# Altium integrated library TI Amplifiers and Linear Operational Amplifier General Purpose.IntLib: 1448 symbols (part 47 of 51)
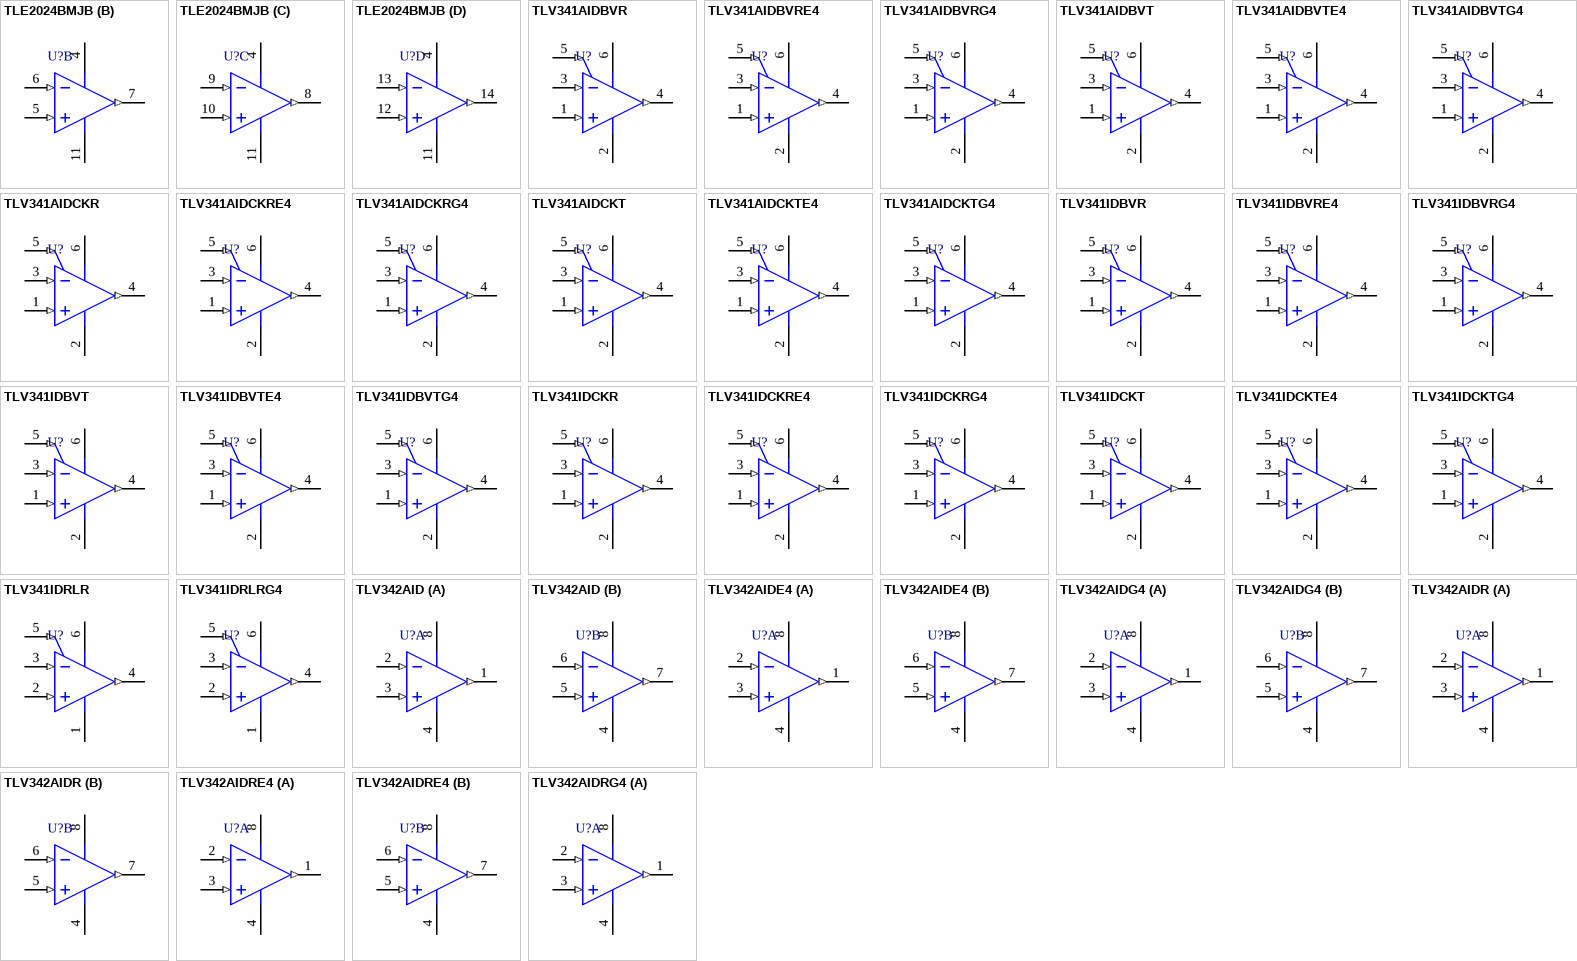
[diagram p137: symbols TLE2024BMJB to TLV342AIDRG4]

## TLV341IDCKRE4
designator U?
Low-Voltage, Rail-To-Rail Output CMOS Operational Amplifier with Shutdown, 1.5 to 5.5 V, -40 to 125 degC, 6-pin SOT23 (DCK6), Green (RoHS & no Sb/Br); Manufacturer: Texas Instruments; PartNumber: TLV341IDCKRE4; CMRR(Min)(dB): 50; GBW(Typ)(MHz): 2.2; IIB(Max)(pA): 3000; Iq per channel(Max)(mA): 0.15; Number of Channels: 1; Offset Drift(Typ)(uV/C): 1.9; Rating: Catalog; Slew Rate(Typ)(V/us): 0.9; Sub Family: General Purpose Amplifier, Low Power Amp (<=500uA), Low Supply Voltage Amplifier (<=2.7V); Total Supply Voltage(Max)(+5V is 5, +/-5V is 10): 5.5; Total Supply Voltage(Min)(+5V is 5, +/-5V is 10): 1.5; Vio (25C)(Max)(mV): 4; Vn at 1kHz(Typ)(nV/rtHz): 33; DatasheetVersion: SLVS568C; PackageVersion: 4093553-4/G, 01/2007; PackageReference: DCK6; PackageDescription: 6-Pin Plastic Small Outline, Body 2 x 1.25 mm, Pitch 0.65 mm; Supplier 1: Digi-Key; Supplier Part Number 1: TLV341IDCKRE4-ND; Supplier 2: Mouser; Supplier Part Number 2: 595-TLV341IDCKRE4; Eco-Plan: Green (RoHS & no Sb/Br); Mounting Technology: Surface Mount; Code_JEDEC: MO-203; ComponentLink1Description: Manufacturer URL; ComponentLink1URL: http://www.ti.com/; ComponentLink2Description: Datasheet; ComponentLink2URL: http://www.ti.com/lit/ds/symlink/tlv341.pdf; ComponentLink3Description: Package Specification; ComponentLink3URL: http://www.ti.com/litv/pdf/mpds114c
footprint TI-DCK6_V (SOT23, 6-Leads, Body 2x1.25mm, Pitch 0.65mm)
pins: 1 IN+ (in), 2 GND (power), 3 IN- (in), 4 OUT (out), 5 ~{SHDN} (in), 6 V+ (power)

## TLV341IDCKRG4
designator U?
Low-Voltage, Rail-To-Rail Output CMOS Operational Amplifier with Shutdown, 1.5 to 5.5 V, -40 to 125 degC, 6-pin SOT23 (DCK6), Green (RoHS & no Sb/Br); Manufacturer: Texas Instruments; PartNumber: TLV341IDCKRG4; CMRR(Min)(dB): 50; GBW(Typ)(MHz): 2.2; IIB(Max)(pA): 3000; Iq per channel(Max)(mA): 0.15; Number of Channels: 1; Offset Drift(Typ)(uV/C): 1.9; Rating: Catalog; Slew Rate(Typ)(V/us): 0.9; Sub Family: General Purpose Amplifier, Low Power Amp (<=500uA), Low Supply Voltage Amplifier (<=2.7V); Total Supply Voltage(Max)(+5V is 5, +/-5V is 10): 5.5; Total Supply Voltage(Min)(+5V is 5, +/-5V is 10): 1.5; Vio (25C)(Max)(mV): 4; Vn at 1kHz(Typ)(nV/rtHz): 33; DatasheetVersion: SLVS568C; PackageVersion: 4093553-4/G, 01/2007; PackageReference: DCK6; PackageDescription: 6-Pin Plastic Small Outline, Body 2 x 1.25 mm, Pitch 0.65 mm; Supplier 1: Digi-Key; Supplier Part Number 1: TLV341IDCKRG4-ND; Supplier 2: Mouser; Supplier Part Number 2: 595-TLV341IDCKRG4; Eco-Plan: Green (RoHS & no Sb/Br); Mounting Technology: Surface Mount; Code_JEDEC: MO-203; ComponentLink1Description: Manufacturer URL; ComponentLink1URL: http://www.ti.com/; ComponentLink2Description: Datasheet; ComponentLink2URL: http://www.ti.com/lit/ds/symlink/tlv341.pdf; ComponentLink3Description: Package Specification; ComponentLink3URL: http://www.ti.com/litv/pdf/mpds114c
footprint TI-DCK6_V (SOT23, 6-Leads, Body 2x1.25mm, Pitch 0.65mm)
pins: 1 IN+ (in), 2 GND (power), 3 IN- (in), 4 OUT (out), 5 ~{SHDN} (in), 6 V+ (power)

## TLV341IDCKT
designator U?
Low-Voltage, Rail-To-Rail Output CMOS Operational Amplifier with Shutdown, 1.5 to 5.5 V, -40 to 125 degC, 6-pin SOT23 (DCK6), Green (RoHS & no Sb/Br); Manufacturer: Texas Instruments; PartNumber: TLV341IDCKT; CMRR(Min)(dB): 50; GBW(Typ)(MHz): 2.2; IIB(Max)(pA): 3000; Iq per channel(Max)(mA): 0.15; Number of Channels: 1; Offset Drift(Typ)(uV/C): 1.9; Rating: Catalog; Slew Rate(Typ)(V/us): 0.9; Sub Family: General Purpose Amplifier, Low Power Amp (<=500uA), Low Supply Voltage Amplifier (<=2.7V); Total Supply Voltage(Max)(+5V is 5, +/-5V is 10): 5.5; Total Supply Voltage(Min)(+5V is 5, +/-5V is 10): 1.5; Vio (25C)(Max)(mV): 4; Vn at 1kHz(Typ)(nV/rtHz): 33; DatasheetVersion: SLVS568C; PackageVersion: 4093553-4/G, 01/2007; PackageReference: DCK6; PackageDescription: 6-Pin Plastic Small Outline, Body 2 x 1.25 mm, Pitch 0.65 mm; Supplier 1: Digi-Key; Supplier Part Number 1: 296-32393-2-ND; Supplier 2: Digi-Key; Supplier Part Number 2: 296-32393-1-ND; Supplier 3: Digi-Key; Supplier Part Number 3: 296-32393-6-ND; Supplier 4: Mouser; Supplier Part Number 4: 595-TLV341IDCKT; Eco-Plan: Green (RoHS & no Sb/Br); Mounting Technology: Surface Mount; Code_JEDEC: MO-203; ComponentLink1Description: Manufacturer URL; ComponentLink1URL: http://www.ti.com/; ComponentLink2Description: Datasheet; ComponentLink2URL: http://www.ti.com/lit/ds/symlink/tlv341.pdf; ComponentLink3Description: Package Specification; ComponentLink3URL: http://www.ti.com/litv/pdf/mpds114c
footprint TI-DCK6_V (SOT23, 6-Leads, Body 2x1.25mm, Pitch 0.65mm)
pins: 1 IN+ (in), 2 GND (power), 3 IN- (in), 4 OUT (out), 5 ~{SHDN} (in), 6 V+ (power)

## TLV341IDCKTE4
designator U?
Low-Voltage, Rail-To-Rail Output CMOS Operational Amplifier with Shutdown, 1.5 to 5.5 V, -40 to 125 degC, 6-pin SOT23 (DCK6), Green (RoHS & no Sb/Br); Manufacturer: Texas Instruments; PartNumber: TLV341IDCKTE4; CMRR(Min)(dB): 50; GBW(Typ)(MHz): 2.2; IIB(Max)(pA): 3000; Iq per channel(Max)(mA): 0.15; Number of Channels: 1; Offset Drift(Typ)(uV/C): 1.9; Rating: Catalog; Slew Rate(Typ)(V/us): 0.9; Sub Family: General Purpose Amplifier, Low Power Amp (<=500uA), Low Supply Voltage Amplifier (<=2.7V); Total Supply Voltage(Max)(+5V is 5, +/-5V is 10): 5.5; Total Supply Voltage(Min)(+5V is 5, +/-5V is 10): 1.5; Vio (25C)(Max)(mV): 4; Vn at 1kHz(Typ)(nV/rtHz): 33; DatasheetVersion: SLVS568C; PackageVersion: 4093553-4/G, 01/2007; PackageReference: DCK6; PackageDescription: 6-Pin Plastic Small Outline, Body 2 x 1.25 mm, Pitch 0.65 mm; Supplier 1: Digi-Key; Supplier Part Number 1: TLV341IDCKTE4-ND; Supplier 2: Newark; Supplier Part Number 2: 37K4249; Supplier 3: Mouser; Supplier Part Number 3: 595-TLV341IDCKTE4; Eco-Plan: Green (RoHS & no Sb/Br); Mounting Technology: Surface Mount; Code_JEDEC: MO-203; ComponentLink1Description: Manufacturer URL; ComponentLink1URL: http://www.ti.com/; ComponentLink2Description: Datasheet; ComponentLink2URL: http://www.ti.com/lit/ds/symlink/tlv341.pdf; ComponentLink3Description: Package Specification; ComponentLink3URL: http://www.ti.com/litv/pdf/mpds114c
footprint TI-DCK6_V (SOT23, 6-Leads, Body 2x1.25mm, Pitch 0.65mm)
pins: 1 IN+ (in), 2 GND (power), 3 IN- (in), 4 OUT (out), 5 ~{SHDN} (in), 6 V+ (power)

## TLV341IDCKTG4
designator U?
Low-Voltage, Rail-To-Rail Output CMOS Operational Amplifier with Shutdown, 1.5 to 5.5 V, -40 to 125 degC, 6-pin SOT23 (DCK6), Green (RoHS & no Sb/Br); Manufacturer: Texas Instruments; PartNumber: TLV341IDCKTG4; CMRR(Min)(dB): 50; GBW(Typ)(MHz): 2.2; IIB(Max)(pA): 3000; Iq per channel(Max)(mA): 0.15; Number of Channels: 1; Offset Drift(Typ)(uV/C): 1.9; Rating: Catalog; Slew Rate(Typ)(V/us): 0.9; Sub Family: General Purpose Amplifier, Low Power Amp (<=500uA), Low Supply Voltage Amplifier (<=2.7V); Total Supply Voltage(Max)(+5V is 5, +/-5V is 10): 5.5; Total Supply Voltage(Min)(+5V is 5, +/-5V is 10): 1.5; Vio (25C)(Max)(mV): 4; Vn at 1kHz(Typ)(nV/rtHz): 33; DatasheetVersion: SLVS568C; PackageVersion: 4093553-4/G, 01/2007; PackageReference: DCK6; PackageDescription: 6-Pin Plastic Small Outline, Body 2 x 1.25 mm, Pitch 0.65 mm; Supplier 1: Digi-Key; Supplier Part Number 1: TLV341IDCKTG4-ND; Supplier 2: Mouser; Supplier Part Number 2: 595-TLV341IDCKTG4; Eco-Plan: Green (RoHS & no Sb/Br); Mounting Technology: Surface Mount; Code_JEDEC: MO-203; ComponentLink1Description: Manufacturer URL; ComponentLink1URL: http://www.ti.com/; ComponentLink2Description: Datasheet; ComponentLink2URL: http://www.ti.com/lit/ds/symlink/tlv341.pdf; ComponentLink3Description: Package Specification; ComponentLink3URL: http://www.ti.com/litv/pdf/mpds114c
footprint TI-DCK6_V (SOT23, 6-Leads, Body 2x1.25mm, Pitch 0.65mm)
pins: 1 IN+ (in), 2 GND (power), 3 IN- (in), 4 OUT (out), 5 ~{SHDN} (in), 6 V+ (power)

## TLV341IDRLR
designator U?
Low-Voltage, Rail-To-Rail Output CMOS Operational Amplifier with Shutdown, 1.5 to 5.5 V, -40 to 125 degC, 6-pin SOT23 (DRL6), Green (RoHS & no Sb/Br); Manufacturer: Texas Instruments; PartNumber: TLV341IDRLR; CMRR(Min)(dB): 50; GBW(Typ)(MHz): 2.2; IIB(Max)(pA): 3000; Iq per channel(Max)(mA): 0.15; Number of Channels: 1; Offset Drift(Typ)(uV/C): 1.9; Rating: Catalog; Slew Rate(Typ)(V/us): 0.9; Sub Family: General Purpose Amplifier, Low Power Amp (<=500uA), Low Supply Voltage Amplifier (<=2.7V); Total Supply Voltage(Max)(+5V is 5, +/-5V is 10): 5.5; Total Supply Voltage(Min)(+5V is 5, +/-5V is 10): 1.5; Vio (25C)(Max)(mV): 4; Vn at 1kHz(Typ)(nV/rtHz): 33; DatasheetVersion: SLVS568C; PackageVersion: 4205622-3/D, 08/2007; PackageReference: DRL6; PackageDescription: 6-Pin Plastic Small Outline, Body 1.6 x 1.2 mm, Pitch 0.5 mm; Supplier 1: Digi-Key; Supplier Part Number 1: 296-21126-2-ND; Supplier 2: Digi-Key; Supplier Part Number 2: 296-21126-1-ND; Supplier 3: Digi-Key; Supplier Part Number 3: 296-21126-6-ND; Supplier 4: Mouser; Supplier Part Number 4: 595-TLV341IDRLR; Eco-Plan: Green (RoHS & no Sb/Br); Mounting Technology: Surface Mount; ComponentLink1Description: Manufacturer URL; ComponentLink1URL: http://www.ti.com/; ComponentLink2Description: Datasheet; ComponentLink2URL: http://www.ti.com/lit/ds/symlink/tlv341.pdf; ComponentLink3Description: Package Specification; ComponentLink3URL: http://www.ti.com/litv/pdf/mpds159c
footprint TI-DRL6_V (SOT23, 6-Leads, Body 1.6x1.2mm, Pitch 0.5mm)
pins: 1 GND (power), 2 IN+ (in), 3 IN- (in), 4 OUT (out), 5 ~{SHDN} (in), 6 V+ (power)

## TLV341IDRLRG4
designator U?
Low-Voltage, Rail-To-Rail Output CMOS Operational Amplifier with Shutdown, 1.5 to 5.5 V, -40 to 125 degC, 6-pin SOT23 (DRL6), Green (RoHS & no Sb/Br); Manufacturer: Texas Instruments; PartNumber: TLV341IDRLRG4; CMRR(Min)(dB): 50; GBW(Typ)(MHz): 2.2; IIB(Max)(pA): 3000; Iq per channel(Max)(mA): 0.15; Number of Channels: 1; Offset Drift(Typ)(uV/C): 1.9; Rating: Catalog; Slew Rate(Typ)(V/us): 0.9; Sub Family: General Purpose Amplifier, Low Power Amp (<=500uA), Low Supply Voltage Amplifier (<=2.7V); Total Supply Voltage(Max)(+5V is 5, +/-5V is 10): 5.5; Total Supply Voltage(Min)(+5V is 5, +/-5V is 10): 1.5; Vio (25C)(Max)(mV): 4; Vn at 1kHz(Typ)(nV/rtHz): 33; DatasheetVersion: SLVS568C; PackageVersion: 4205622-3/D, 08/2007; PackageReference: DRL6; PackageDescription: 6-Pin Plastic Small Outline, Body 1.6 x 1.2 mm, Pitch 0.5 mm; Supplier 1: Digi-Key; Supplier Part Number 1: TLV341IDRLRG4-ND; Supplier 2: Mouser; Supplier Part Number 2: 595-TLV341IDRLRG4; Eco-Plan: Green (RoHS & no Sb/Br); Mounting Technology: Surface Mount; ComponentLink1Description: Manufacturer URL; ComponentLink1URL: http://www.ti.com/; ComponentLink2Description: Datasheet; ComponentLink2URL: http://www.ti.com/lit/ds/symlink/tlv341.pdf; ComponentLink3Description: Package Specification; ComponentLink3URL: http://www.ti.com/litv/pdf/mpds159c
footprint TI-DRL6_V (SOT23, 6-Leads, Body 1.6x1.2mm, Pitch 0.5mm)
pins: 1 GND (power), 2 IN+ (in), 3 IN- (in), 4 OUT (out), 5 ~{SHDN} (in), 6 V+ (power)

## TLV342AID
designator U?
Low-Voltage, Rail-To-Rail Output CMOS Operational Amplifier, 1.5 to 5.5 V, -40 to 125 degC, 8-pin SOIC (D8), Green (RoHS & no Sb/Br); Manufacturer: Texas Instruments; PartNumber: TLV342AID; CMRR(Min)(dB): 50; GBW(Typ)(MHz): 2.2; IIB(Max)(pA): 3000; Iq per channel(Max)(mA): 0.15; Number of Channels: 2; Offset Drift(Typ)(uV/C): 1.9; Rating: Catalog; Slew Rate(Typ)(V/us): 0.9; Sub Family: General Purpose Amplifier, Low Power Amp (<=500uA), Low Supply Voltage Amplifier (<=2.7V); Total Supply Voltage(Max)(+5V is 5, +/-5V is 10): 5.5; Total Supply Voltage(Min)(+5V is 5, +/-5V is 10): 1.5; Vio (25C)(Max)(mV): 1.25; Vn at 1kHz(Typ)(nV/rtHz): 33; DatasheetVersion: SLVS568C; PackageVersion: 4040047-3/M, 06/2011; PackageReference: D8; PackageDescription: 8-Pin Plastic Small Outline, Body 4.9 x 3.9 mm, Pitch 1.27 mm; Supplier 1: Digi-Key; Supplier Part Number 1: TLV342AID-ND; Supplier 2: Mouser; Supplier Part Number 2: 595-TLV342AID; Eco-Plan: Green (RoHS & no Sb/Br); Mounting Technology: Surface Mount; Code_JEDEC: MS-012; ComponentLink1Description: Manufacturer URL; ComponentLink1URL: http://www.ti.com/; ComponentLink2Description: Datasheet; ComponentLink2URL: http://www.ti.com/lit/ds/symlink/tlv342a.pdf; ComponentLink3Description: Package Specification; ComponentLink3URL: http://www.ti.com/litv/pdf/msoi002j
footprint TI-D8_N (SOIC, 8-Leads, Body 4.9x3.9mm, Pitch 1.27mm, IPC Medium Density)
footprint TI-D8_L (SOIC, 8-Leads, Body 4.9x3.9mm, Pitch 1.27mm, IPC High Density)
footprint TI-D8_M (SOIC, 8-Leads, Body 4.9x3.9mm, Pitch 1.27mm, IPC Low Density)
pins on every part: 4 GND (power), 8 V+ (power)
part A pins: 1 OUT1 (out), 2 IN1- (in), 3 IN1+ (in)
part B pins: 5 IN2+ (in), 6 IN2- (in), 7 OUT2 (out)

## TLV342AIDE4
designator U?
Low-Voltage, Rail-To-Rail Output CMOS Operational Amplifier, 1.5 to 5.5 V, -40 to 125 degC, 8-pin SOIC (D8), Green (RoHS & no Sb/Br); Manufacturer: Texas Instruments; PartNumber: TLV342AIDE4; CMRR(Min)(dB): 50; GBW(Typ)(MHz): 2.2; IIB(Max)(pA): 3000; Iq per channel(Max)(mA): 0.15; Number of Channels: 2; Offset Drift(Typ)(uV/C): 1.9; Rating: Catalog; Slew Rate(Typ)(V/us): 0.9; Sub Family: General Purpose Amplifier, Low Power Amp (<=500uA), Low Supply Voltage Amplifier (<=2.7V); Total Supply Voltage(Max)(+5V is 5, +/-5V is 10): 5.5; Total Supply Voltage(Min)(+5V is 5, +/-5V is 10): 1.5; Vio (25C)(Max)(mV): 1.25; Vn at 1kHz(Typ)(nV/rtHz): 33; DatasheetVersion: SLVS568C; PackageVersion: 4040047-3/M, 06/2011; PackageReference: D8; PackageDescription: 8-Pin Plastic Small Outline, Body 4.9 x 3.9 mm, Pitch 1.27 mm; Supplier 1: Digi-Key; Supplier Part Number 1: TLV342AIDE4-ND; Supplier 2: Mouser; Supplier Part Number 2: 595-TLV342AIDE4; Eco-Plan: Green (RoHS & no Sb/Br); Mounting Technology: Surface Mount; Code_JEDEC: MS-012; ComponentLink1Description: Manufacturer URL; ComponentLink1URL: http://www.ti.com/; ComponentLink2Description: Datasheet; ComponentLink2URL: http://www.ti.com/lit/ds/symlink/tlv342a.pdf; ComponentLink3Description: Package Specification; ComponentLink3URL: http://www.ti.com/litv/pdf/msoi002j
footprint TI-D8_N (SOIC, 8-Leads, Body 4.9x3.9mm, Pitch 1.27mm, IPC Medium Density)
footprint TI-D8_L (SOIC, 8-Leads, Body 4.9x3.9mm, Pitch 1.27mm, IPC High Density)
footprint TI-D8_M (SOIC, 8-Leads, Body 4.9x3.9mm, Pitch 1.27mm, IPC Low Density)
pins on every part: 4 GND (power), 8 V+ (power)
part A pins: 1 OUT1 (out), 2 IN1- (in), 3 IN1+ (in)
part B pins: 5 IN2+ (in), 6 IN2- (in), 7 OUT2 (out)

## TLV342AIDG4
designator U?
Low-Voltage, Rail-To-Rail Output CMOS Operational Amplifier, 1.5 to 5.5 V, -40 to 125 degC, 8-pin SOIC (D8), Green (RoHS & no Sb/Br); Manufacturer: Texas Instruments; PartNumber: TLV342AIDG4; CMRR(Min)(dB): 50; GBW(Typ)(MHz): 2.2; IIB(Max)(pA): 3000; Iq per channel(Max)(mA): 0.15; Number of Channels: 2; Offset Drift(Typ)(uV/C): 1.9; Rating: Catalog; Slew Rate(Typ)(V/us): 0.9; Sub Family: General Purpose Amplifier, Low Power Amp (<=500uA), Low Supply Voltage Amplifier (<=2.7V); Total Supply Voltage(Max)(+5V is 5, +/-5V is 10): 5.5; Total Supply Voltage(Min)(+5V is 5, +/-5V is 10): 1.5; Vio (25C)(Max)(mV): 1.25; Vn at 1kHz(Typ)(nV/rtHz): 33; DatasheetVersion: SLVS568C; PackageVersion: 4040047-3/M, 06/2011; PackageReference: D8; PackageDescription: 8-Pin Plastic Small Outline, Body 4.9 x 3.9 mm, Pitch 1.27 mm; Supplier 1: Digi-Key; Supplier Part Number 1: TLV342AIDG4-ND; Supplier 2: Mouser; Supplier Part Number 2: 595-TLV342AIDG4; Eco-Plan: Green (RoHS & no Sb/Br); Mounting Technology: Surface Mount; Code_JEDEC: MS-012; ComponentLink1Description: Manufacturer URL; ComponentLink1URL: http://www.ti.com/; ComponentLink2Description: Datasheet; ComponentLink2URL: http://www.ti.com/lit/ds/symlink/tlv342a.pdf; ComponentLink3Description: Package Specification; ComponentLink3URL: http://www.ti.com/litv/pdf/msoi002j
footprint TI-D8_N (SOIC, 8-Leads, Body 4.9x3.9mm, Pitch 1.27mm, IPC Medium Density)
footprint TI-D8_L (SOIC, 8-Leads, Body 4.9x3.9mm, Pitch 1.27mm, IPC High Density)
footprint TI-D8_M (SOIC, 8-Leads, Body 4.9x3.9mm, Pitch 1.27mm, IPC Low Density)
pins on every part: 4 GND (power), 8 V+ (power)
part A pins: 1 OUT1 (out), 2 IN1- (in), 3 IN1+ (in)
part B pins: 5 IN2+ (in), 6 IN2- (in), 7 OUT2 (out)

## TLV342AIDR
designator U?
Low-Voltage, Rail-To-Rail Output CMOS Operational Amplifier, 1.5 to 5.5 V, -40 to 125 degC, 8-pin SOIC (D8), Green (RoHS & no Sb/Br); Manufacturer: Texas Instruments; PartNumber: TLV342AIDR; CMRR(Min)(dB): 50; GBW(Typ)(MHz): 2.2; IIB(Max)(pA): 3000; Iq per channel(Max)(mA): 0.15; Number of Channels: 2; Offset Drift(Typ)(uV/C): 1.9; Rating: Catalog; Slew Rate(Typ)(V/us): 0.9; Sub Family: General Purpose Amplifier, Low Power Amp (<=500uA), Low Supply Voltage Amplifier (<=2.7V); Total Supply Voltage(Max)(+5V is 5, +/-5V is 10): 5.5; Total Supply Voltage(Min)(+5V is 5, +/-5V is 10): 1.5; Vio (25C)(Max)(mV): 1.25; Vn at 1kHz(Typ)(nV/rtHz): 33; DatasheetVersion: SLVS568C; PackageVersion: 4040047-3/M, 06/2011; PackageReference: D8; PackageDescription: 8-Pin Plastic Small Outline, Body 4.9 x 3.9 mm, Pitch 1.27 mm; Supplier 1: Digi-Key; Supplier Part Number 1: 296-21127-2-ND; Supplier 2: Digi-Key; Supplier Part Number 2: 296-21127-1-ND; Supplier 3: Digi-Key; Supplier Part Number 3: 296-21127-6-ND; Supplier 4: Mouser; Supplier Part Number 4: 595-TLV342AIDR; Eco-Plan: Green (RoHS & no Sb/Br); Mounting Technology: Surface Mount; Code_JEDEC: MS-012; ComponentLink1Description: Manufacturer URL; ComponentLink1URL: http://www.ti.com/; ComponentLink2Description: Datasheet; ComponentLink2URL: http://www.ti.com/lit/ds/symlink/tlv342a.pdf; ComponentLink3Description: Package Specification; ComponentLink3URL: http://www.ti.com/litv/pdf/msoi002j
footprint TI-D8_N (SOIC, 8-Leads, Body 4.9x3.9mm, Pitch 1.27mm, IPC Medium Density)
footprint TI-D8_L (SOIC, 8-Leads, Body 4.9x3.9mm, Pitch 1.27mm, IPC High Density)
footprint TI-D8_M (SOIC, 8-Leads, Body 4.9x3.9mm, Pitch 1.27mm, IPC Low Density)
pins on every part: 4 GND (power), 8 V+ (power)
part A pins: 1 OUT1 (out), 2 IN1- (in), 3 IN1+ (in)
part B pins: 5 IN2+ (in), 6 IN2- (in), 7 OUT2 (out)

## TLV342AIDRE4
designator U?
Low-Voltage, Rail-To-Rail Output CMOS Operational Amplifier, 1.5 to 5.5 V, -40 to 125 degC, 8-pin SOIC (D8), Green (RoHS & no Sb/Br); Manufacturer: Texas Instruments; PartNumber: TLV342AIDRE4; CMRR(Min)(dB): 50; GBW(Typ)(MHz): 2.2; IIB(Max)(pA): 3000; Iq per channel(Max)(mA): 0.15; Number of Channels: 2; Offset Drift(Typ)(uV/C): 1.9; Rating: Catalog; Slew Rate(Typ)(V/us): 0.9; Sub Family: General Purpose Amplifier, Low Power Amp (<=500uA), Low Supply Voltage Amplifier (<=2.7V); Total Supply Voltage(Max)(+5V is 5, +/-5V is 10): 5.5; Total Supply Voltage(Min)(+5V is 5, +/-5V is 10): 1.5; Vio (25C)(Max)(mV): 1.25; Vn at 1kHz(Typ)(nV/rtHz): 33; DatasheetVersion: SLVS568C; PackageVersion: 4040047-3/M, 06/2011; PackageReference: D8; PackageDescription: 8-Pin Plastic Small Outline, Body 4.9 x 3.9 mm, Pitch 1.27 mm; Supplier 1: Digi-Key; Supplier Part Number 1: TLV342AIDRE4-ND; Supplier 2: Mouser; Supplier Part Number 2: 595-TLV342AIDRE4; Eco-Plan: Green (RoHS & no Sb/Br); Mounting Technology: Surface Mount; Code_JEDEC: MS-012; ComponentLink1Description: Manufacturer URL; ComponentLink1URL: http://www.ti.com/; ComponentLink2Description: Datasheet; ComponentLink2URL: http://www.ti.com/lit/ds/symlink/tlv342a.pdf; ComponentLink3Description: Package Specification; ComponentLink3URL: http://www.ti.com/litv/pdf/msoi002j
footprint TI-D8_N (SOIC, 8-Leads, Body 4.9x3.9mm, Pitch 1.27mm, IPC Medium Density)
footprint TI-D8_L (SOIC, 8-Leads, Body 4.9x3.9mm, Pitch 1.27mm, IPC High Density)
footprint TI-D8_M (SOIC, 8-Leads, Body 4.9x3.9mm, Pitch 1.27mm, IPC Low Density)
pins on every part: 4 GND (power), 8 V+ (power)
part A pins: 1 OUT1 (out), 2 IN1- (in), 3 IN1+ (in)
part B pins: 5 IN2+ (in), 6 IN2- (in), 7 OUT2 (out)

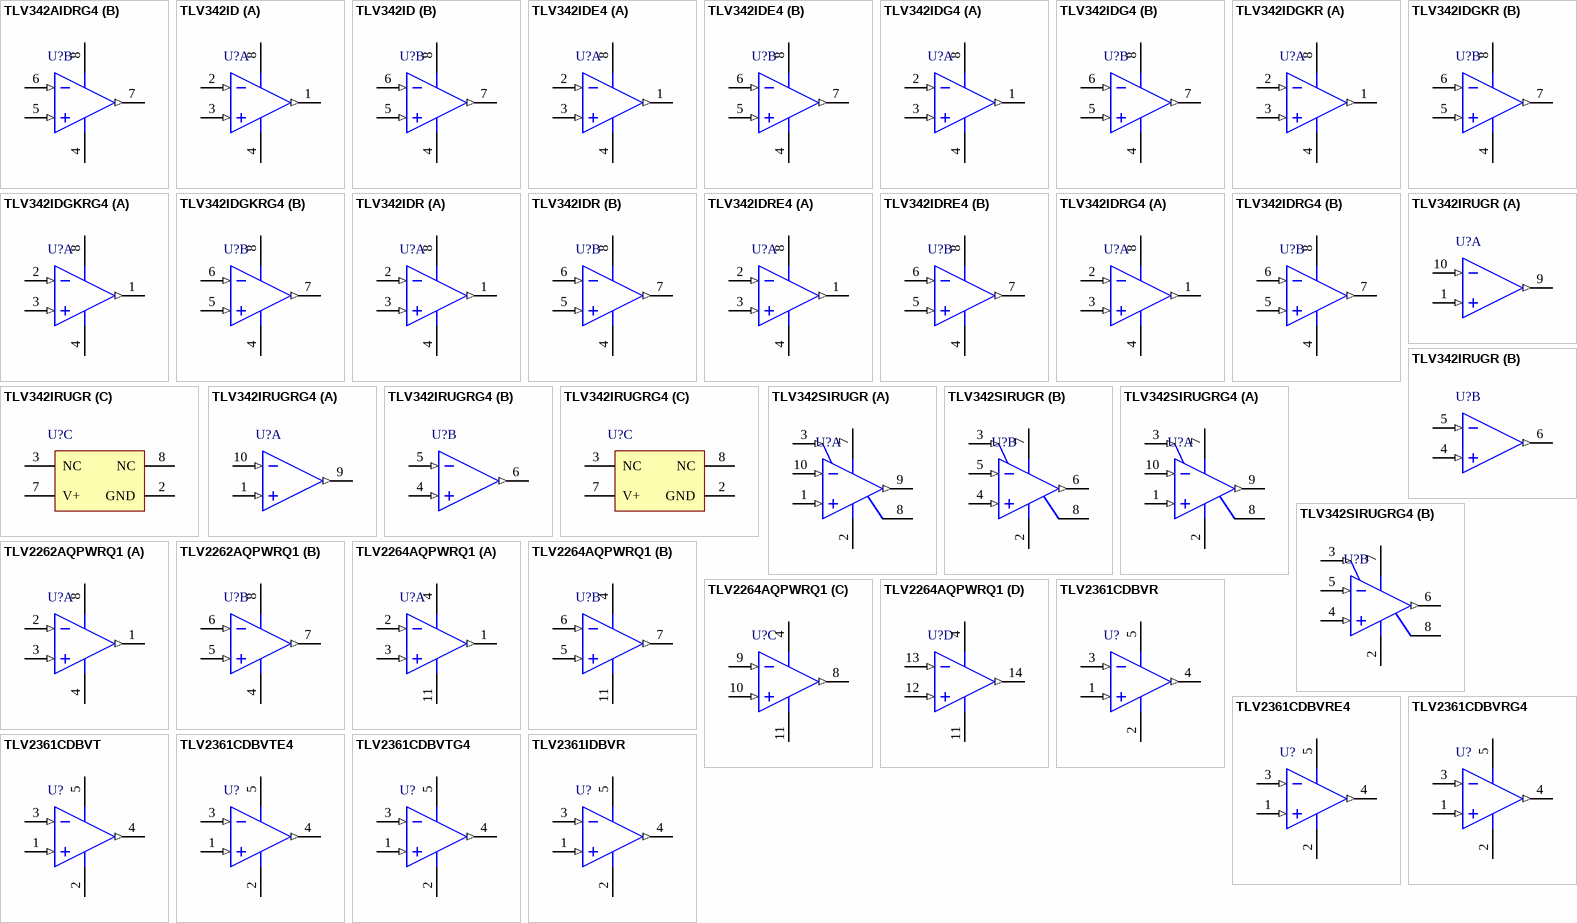
[diagram p83: symbols TLV342AIDRG4 to TLV2361IDBVR]

## TLV342AIDRG4
designator U?
Low-Voltage, Rail-To-Rail Output CMOS Operational Amplifier, 1.5 to 5.5 V, -40 to 125 degC, 8-pin SOIC (D8), Green (RoHS & no Sb/Br); Manufacturer: Texas Instruments; PartNumber: TLV342AIDRG4; CMRR(Min)(dB): 50; GBW(Typ)(MHz): 2.2; IIB(Max)(pA): 3000; Iq per channel(Max)(mA): 0.15; Number of Channels: 2; Offset Drift(Typ)(uV/C): 1.9; Rating: Catalog; Slew Rate(Typ)(V/us): 0.9; Sub Family: General Purpose Amplifier, Low Power Amp (<=500uA), Low Supply Voltage Amplifier (<=2.7V); Total Supply Voltage(Max)(+5V is 5, +/-5V is 10): 5.5; Total Supply Voltage(Min)(+5V is 5, +/-5V is 10): 1.5; Vio (25C)(Max)(mV): 1.25; Vn at 1kHz(Typ)(nV/rtHz): 33; DatasheetVersion: SLVS568C; PackageVersion: 4040047-3/M, 06/2011; PackageReference: D8; PackageDescription: 8-Pin Plastic Small Outline, Body 4.9 x 3.9 mm, Pitch 1.27 mm; Supplier 1: Digi-Key; Supplier Part Number 1: TLV342AIDRG4-ND; Supplier 2: Mouser; Supplier Part Number 2: 595-TLV342AIDRG4; Eco-Plan: Green (RoHS & no Sb/Br); Mounting Technology: Surface Mount; Code_JEDEC: MS-012; ComponentLink1Description: Manufacturer URL; ComponentLink1URL: http://www.ti.com/; ComponentLink2Description: Datasheet; ComponentLink2URL: http://www.ti.com/lit/ds/symlink/tlv342a.pdf; ComponentLink3Description: Package Specification; ComponentLink3URL: http://www.ti.com/litv/pdf/msoi002j
footprint TI-D8_N (SOIC, 8-Leads, Body 4.9x3.9mm, Pitch 1.27mm, IPC Medium Density)
footprint TI-D8_L (SOIC, 8-Leads, Body 4.9x3.9mm, Pitch 1.27mm, IPC High Density)
footprint TI-D8_M (SOIC, 8-Leads, Body 4.9x3.9mm, Pitch 1.27mm, IPC Low Density)
pins on every part: 4 GND (power), 8 V+ (power)
part A pins: 1 OUT1 (out), 2 IN1- (in), 3 IN1+ (in)
part B pins: 5 IN2+ (in), 6 IN2- (in), 7 OUT2 (out)

## TLV342ID
designator U?
Low-Voltage, Rail-To-Rail Output CMOS Operational Amplifier, 1.5 to 5.5 V, -40 to 125 degC, 8-pin SOIC (D8), Green (RoHS & no Sb/Br); Manufacturer: Texas Instruments; PartNumber: TLV342ID; CMRR(Min)(dB): 50; GBW(Typ)(MHz): 2.2; IIB(Max)(pA): 3000; Iq per channel(Max)(mA): 0.15; Number of Channels: 2; Offset Drift(Typ)(uV/C): 1.9; Rating: Catalog; Slew Rate(Typ)(V/us): 0.9; Sub Family: General Purpose Amplifier, Low Power Amp (<=500uA), Low Supply Voltage Amplifier (<=2.7V); Total Supply Voltage(Max)(+5V is 5, +/-5V is 10): 5.5; Total Supply Voltage(Min)(+5V is 5, +/-5V is 10): 1.5; Vio (25C)(Max)(mV): 4; Vn at 1kHz(Typ)(nV/rtHz): 33; DatasheetVersion: SLVS568C; PackageVersion: 4040047-3/M, 06/2011; PackageReference: D8; PackageDescription: 8-Pin Plastic Small Outline, Body 4.9 x 3.9 mm, Pitch 1.27 mm; Supplier 1: Digi-Key; Supplier Part Number 1: 296-34481-5-ND; Supplier 2: Newark; Supplier Part Number 2: 57K1265; Supplier 3: Mouser; Supplier Part Number 3: 595-TLV342ID; Eco-Plan: Green (RoHS & no Sb/Br); Mounting Technology: Surface Mount; Code_JEDEC: MS-012; ComponentLink1Description: Manufacturer URL; ComponentLink1URL: http://www.ti.com/; ComponentLink2Description: Datasheet; ComponentLink2URL: http://www.ti.com/lit/ds/symlink/tlv342.pdf; ComponentLink3Description: Package Specification; ComponentLink3URL: http://www.ti.com/litv/pdf/msoi002j
footprint TI-D8_N (SOIC, 8-Leads, Body 4.9x3.9mm, Pitch 1.27mm, IPC Medium Density)
footprint TI-D8_L (SOIC, 8-Leads, Body 4.9x3.9mm, Pitch 1.27mm, IPC High Density)
footprint TI-D8_M (SOIC, 8-Leads, Body 4.9x3.9mm, Pitch 1.27mm, IPC Low Density)
pins on every part: 4 GND (power), 8 V+ (power)
part A pins: 1 OUT1 (out), 2 IN1- (in), 3 IN1+ (in)
part B pins: 5 IN2+ (in), 6 IN2- (in), 7 OUT2 (out)

## TLV342IDE4
designator U?
Low-Voltage, Rail-To-Rail Output CMOS Operational Amplifier, 1.5 to 5.5 V, -40 to 125 degC, 8-pin SOIC (D8), Green (RoHS & no Sb/Br); Manufacturer: Texas Instruments; PartNumber: TLV342IDE4; CMRR(Min)(dB): 50; GBW(Typ)(MHz): 2.2; IIB(Max)(pA): 3000; Iq per channel(Max)(mA): 0.15; Number of Channels: 2; Offset Drift(Typ)(uV/C): 1.9; Rating: Catalog; Slew Rate(Typ)(V/us): 0.9; Sub Family: General Purpose Amplifier, Low Power Amp (<=500uA), Low Supply Voltage Amplifier (<=2.7V); Total Supply Voltage(Max)(+5V is 5, +/-5V is 10): 5.5; Total Supply Voltage(Min)(+5V is 5, +/-5V is 10): 1.5; Vio (25C)(Max)(mV): 4; Vn at 1kHz(Typ)(nV/rtHz): 33; DatasheetVersion: SLVS568C; PackageVersion: 4040047-3/M, 06/2011; PackageReference: D8; PackageDescription: 8-Pin Plastic Small Outline, Body 4.9 x 3.9 mm, Pitch 1.27 mm; Supplier 1: Digi-Key; Supplier Part Number 1: TLV342IDE4-ND; Supplier 2: Mouser; Supplier Part Number 2: 595-TLV342IDE4; Eco-Plan: Green (RoHS & no Sb/Br); Mounting Technology: Surface Mount; Code_JEDEC: MS-012; ComponentLink1Description: Manufacturer URL; ComponentLink1URL: http://www.ti.com/; ComponentLink2Description: Datasheet; ComponentLink2URL: http://www.ti.com/lit/ds/symlink/tlv342.pdf; ComponentLink3Description: Package Specification; ComponentLink3URL: http://www.ti.com/litv/pdf/msoi002j
footprint TI-D8_N (SOIC, 8-Leads, Body 4.9x3.9mm, Pitch 1.27mm, IPC Medium Density)
footprint TI-D8_L (SOIC, 8-Leads, Body 4.9x3.9mm, Pitch 1.27mm, IPC High Density)
footprint TI-D8_M (SOIC, 8-Leads, Body 4.9x3.9mm, Pitch 1.27mm, IPC Low Density)
pins on every part: 4 GND (power), 8 V+ (power)
part A pins: 1 OUT1 (out), 2 IN1- (in), 3 IN1+ (in)
part B pins: 5 IN2+ (in), 6 IN2- (in), 7 OUT2 (out)

## TLV342IDG4
designator U?
Low-Voltage, Rail-To-Rail Output CMOS Operational Amplifier, 1.5 to 5.5 V, -40 to 125 degC, 8-pin SOIC (D8), Green (RoHS & no Sb/Br); Manufacturer: Texas Instruments; PartNumber: TLV342IDG4; CMRR(Min)(dB): 50; GBW(Typ)(MHz): 2.2; IIB(Max)(pA): 3000; Iq per channel(Max)(mA): 0.15; Number of Channels: 2; Offset Drift(Typ)(uV/C): 1.9; Rating: Catalog; Slew Rate(Typ)(V/us): 0.9; Sub Family: General Purpose Amplifier, Low Power Amp (<=500uA), Low Supply Voltage Amplifier (<=2.7V); Total Supply Voltage(Max)(+5V is 5, +/-5V is 10): 5.5; Total Supply Voltage(Min)(+5V is 5, +/-5V is 10): 1.5; Vio (25C)(Max)(mV): 4; Vn at 1kHz(Typ)(nV/rtHz): 33; DatasheetVersion: SLVS568C; PackageVersion: 4040047-3/M, 06/2011; PackageReference: D8; PackageDescription: 8-Pin Plastic Small Outline, Body 4.9 x 3.9 mm, Pitch 1.27 mm; Supplier 1: Digi-Key; Supplier Part Number 1: TLV342IDG4-ND; Supplier 2: Mouser; Supplier Part Number 2: 595-TLV342IDG4; Eco-Plan: Green (RoHS & no Sb/Br); Mounting Technology: Surface Mount; Code_JEDEC: MS-012; ComponentLink1Description: Manufacturer URL; ComponentLink1URL: http://www.ti.com/; ComponentLink2Description: Datasheet; ComponentLink2URL: http://www.ti.com/lit/ds/symlink/tlv342.pdf; ComponentLink3Description: Package Specification; ComponentLink3URL: http://www.ti.com/litv/pdf/msoi002j
footprint TI-D8_N (SOIC, 8-Leads, Body 4.9x3.9mm, Pitch 1.27mm, IPC Medium Density)
footprint TI-D8_L (SOIC, 8-Leads, Body 4.9x3.9mm, Pitch 1.27mm, IPC High Density)
footprint TI-D8_M (SOIC, 8-Leads, Body 4.9x3.9mm, Pitch 1.27mm, IPC Low Density)
pins on every part: 4 GND (power), 8 V+ (power)
part A pins: 1 OUT1 (out), 2 IN1- (in), 3 IN1+ (in)
part B pins: 5 IN2+ (in), 6 IN2- (in), 7 OUT2 (out)

## TLV342IDGKR
designator U?
Low-Voltage, Rail-To-Rail Output CMOS Operational Amplifier, 1.5 to 5.5 V, -40 to 125 degC, 8-pin SOP (DGK8), Green (RoHS & no Sb/Br); Manufacturer: Texas Instruments; PartNumber: TLV342IDGKR; CMRR(Min)(dB): 50; GBW(Typ)(MHz): 2.2; IIB(Max)(pA): 3000; Iq per channel(Max)(mA): 0.15; Number of Channels: 2; Offset Drift(Typ)(uV/C): 1.9; Rating: Catalog; Slew Rate(Typ)(V/us): 0.9; Sub Family: General Purpose Amplifier, Low Power Amp (<=500uA), Low Supply Voltage Amplifier (<=2.7V); Total Supply Voltage(Max)(+5V is 5, +/-5V is 10): 5.5; Total Supply Voltage(Min)(+5V is 5, +/-5V is 10): 1.5; Vio (25C)(Max)(mV): 4; Vn at 1kHz(Typ)(nV/rtHz): 33; DatasheetVersion: SLVS568C; PackageVersion: 4073329/E, 05/2006; PackageReference: DGK8; PackageDescription: 8-Pin Thin Small Outline, 3 x 3 mm Body, 0.65 mm Pitch; Supplier 1: Digi-Key; Supplier Part Number 1: 296-22848-2-ND; Supplier 2: Digi-Key; Supplier Part Number 2: 296-22848-1-ND; Supplier 3: Digi-Key; Supplier Part Number 3: 296-22848-6-ND; Supplier 4: Mouser; Supplier Part Number 4: 595-TLV342IDGKR; Eco-Plan: Green (RoHS & no Sb/Br); Mounting Technology: Surface Mount; Code_JEDEC: MO-187; ComponentLink1Description: Manufacturer URL; ComponentLink1URL: http://www.ti.com/; ComponentLink2Description: Datasheet; ComponentLink2URL: http://www.ti.com/lit/ds/symlink/tlv342.pdf; ComponentLink3Description: Package Specification; ComponentLink3URL: http://www.ti.com/litv/pdf/mpds028d
footprint TI-DGK8_N (SOP, 8-Leads, Body 3x3mm, Pitch 0.65mm, IPC Medium Density)
footprint TI-DGK8_L (SOP, 8-Leads, Body 3x3mm, Pitch 0.65mm, IPC High Density)
footprint TI-DGK8_M (SOP, 8-Leads, Body 3x3mm, Pitch 0.65mm, IPC Low Density)
pins on every part: 4 GND (power), 8 V+ (power)
part A pins: 1 OUT1 (out), 2 IN1- (in), 3 IN1+ (in)
part B pins: 5 IN2+ (in), 6 IN2- (in), 7 OUT2 (out)

## TLV342IDGKRG4
designator U?
Low-Voltage, Rail-To-Rail Output CMOS Operational Amplifier, 1.5 to 5.5 V, -40 to 125 degC, 8-pin SOP (DGK8), Green (RoHS & no Sb/Br); Manufacturer: Texas Instruments; PartNumber: TLV342IDGKRG4; CMRR(Min)(dB): 50; GBW(Typ)(MHz): 2.2; IIB(Max)(pA): 3000; Iq per channel(Max)(mA): 0.15; Number of Channels: 2; Offset Drift(Typ)(uV/C): 1.9; Rating: Catalog; Slew Rate(Typ)(V/us): 0.9; Sub Family: General Purpose Amplifier, Low Power Amp (<=500uA), Low Supply Voltage Amplifier (<=2.7V); Total Supply Voltage(Max)(+5V is 5, +/-5V is 10): 5.5; Total Supply Voltage(Min)(+5V is 5, +/-5V is 10): 1.5; Vio (25C)(Max)(mV): 4; Vn at 1kHz(Typ)(nV/rtHz): 33; DatasheetVersion: SLVS568C; PackageVersion: 4073329/E, 05/2006; PackageReference: DGK8; PackageDescription: 8-Pin Thin Small Outline, 3 x 3 mm Body, 0.65 mm Pitch; Supplier 1: Digi-Key; Supplier Part Number 1: TLV342IDGKRG4-ND; Supplier 2: Mouser; Supplier Part Number 2: 595-TLV342IDGKRG4; Eco-Plan: Green (RoHS & no Sb/Br); Mounting Technology: Surface Mount; Code_JEDEC: MO-187; ComponentLink1Description: Manufacturer URL; ComponentLink1URL: http://www.ti.com/; ComponentLink2Description: Datasheet; ComponentLink2URL: http://www.ti.com/lit/ds/symlink/tlv342.pdf; ComponentLink3Description: Package Specification; ComponentLink3URL: http://www.ti.com/litv/pdf/mpds028d
footprint TI-DGK8_N (SOP, 8-Leads, Body 3x3mm, Pitch 0.65mm, IPC Medium Density)
footprint TI-DGK8_L (SOP, 8-Leads, Body 3x3mm, Pitch 0.65mm, IPC High Density)
footprint TI-DGK8_M (SOP, 8-Leads, Body 3x3mm, Pitch 0.65mm, IPC Low Density)
pins on every part: 4 GND (power), 8 V+ (power)
part A pins: 1 OUT1 (out), 2 IN1- (in), 3 IN1+ (in)
part B pins: 5 IN2+ (in), 6 IN2- (in), 7 OUT2 (out)

## TLV342IDR
designator U?
Low-Voltage, Rail-To-Rail Output CMOS Operational Amplifier, 1.5 to 5.5 V, -40 to 125 degC, 8-pin SOIC (D8), Green (RoHS & no Sb/Br); Manufacturer: Texas Instruments; PartNumber: TLV342IDR; CMRR(Min)(dB): 50; GBW(Typ)(MHz): 2.2; IIB(Max)(pA): 3000; Iq per channel(Max)(mA): 0.15; Number of Channels: 2; Offset Drift(Typ)(uV/C): 1.9; Rating: Catalog; Slew Rate(Typ)(V/us): 0.9; Sub Family: General Purpose Amplifier, Low Power Amp (<=500uA), Low Supply Voltage Amplifier (<=2.7V); Total Supply Voltage(Max)(+5V is 5, +/-5V is 10): 5.5; Total Supply Voltage(Min)(+5V is 5, +/-5V is 10): 1.5; Vio (25C)(Max)(mV): 4; Vn at 1kHz(Typ)(nV/rtHz): 33; DatasheetVersion: SLVS568C; PackageVersion: 4040047-3/M, 06/2011; PackageReference: D8; PackageDescription: 8-Pin Plastic Small Outline, Body 4.9 x 3.9 mm, Pitch 1.27 mm; Supplier 1: Digi-Key; Supplier Part Number 1: 296-21128-2-ND; Supplier 2: Digi-Key; Supplier Part Number 2: 296-21128-1-ND; Supplier 3: Digi-Key; Supplier Part Number 3: 296-21128-6-ND; Supplier 4: Newark; Supplier Part Number 4: 57K1266; Supplier 5: Mouser; Supplier Part Number 5: 595-TLV342IDR; Eco-Plan: Green (RoHS & no Sb/Br); Mounting Technology: Surface Mount; Code_JEDEC: MS-012; ComponentLink1Description: Manufacturer URL; ComponentLink1URL: http://www.ti.com/; ComponentLink2Description: Datasheet; ComponentLink2URL: http://www.ti.com/lit/ds/symlink/tlv342.pdf; ComponentLink3Description: Package Specification; ComponentLink3URL: http://www.ti.com/litv/pdf/msoi002j
footprint TI-D8_N (SOIC, 8-Leads, Body 4.9x3.9mm, Pitch 1.27mm, IPC Medium Density)
footprint TI-D8_L (SOIC, 8-Leads, Body 4.9x3.9mm, Pitch 1.27mm, IPC High Density)
footprint TI-D8_M (SOIC, 8-Leads, Body 4.9x3.9mm, Pitch 1.27mm, IPC Low Density)
pins on every part: 4 GND (power), 8 V+ (power)
part A pins: 1 OUT1 (out), 2 IN1- (in), 3 IN1+ (in)
part B pins: 5 IN2+ (in), 6 IN2- (in), 7 OUT2 (out)

## TLV342IDRE4
designator U?
Low-Voltage, Rail-To-Rail Output CMOS Operational Amplifier, 1.5 to 5.5 V, -40 to 125 degC, 8-pin SOIC (D8), Green (RoHS & no Sb/Br); Manufacturer: Texas Instruments; PartNumber: TLV342IDRE4; CMRR(Min)(dB): 50; GBW(Typ)(MHz): 2.2; IIB(Max)(pA): 3000; Iq per channel(Max)(mA): 0.15; Number of Channels: 2; Offset Drift(Typ)(uV/C): 1.9; Rating: Catalog; Slew Rate(Typ)(V/us): 0.9; Sub Family: General Purpose Amplifier, Low Power Amp (<=500uA), Low Supply Voltage Amplifier (<=2.7V); Total Supply Voltage(Max)(+5V is 5, +/-5V is 10): 5.5; Total Supply Voltage(Min)(+5V is 5, +/-5V is 10): 1.5; Vio (25C)(Max)(mV): 4; Vn at 1kHz(Typ)(nV/rtHz): 33; DatasheetVersion: SLVS568C; PackageVersion: 4040047-3/M, 06/2011; PackageReference: D8; PackageDescription: 8-Pin Plastic Small Outline, Body 4.9 x 3.9 mm, Pitch 1.27 mm; Supplier 1: Digi-Key; Supplier Part Number 1: TLV342IDRE4-ND; Supplier 2: Mouser; Supplier Part Number 2: 595-TLV342IDRE4; Eco-Plan: Green (RoHS & no Sb/Br); Mounting Technology: Surface Mount; Code_JEDEC: MS-012; ComponentLink1Description: Manufacturer URL; ComponentLink1URL: http://www.ti.com/; ComponentLink2Description: Datasheet; ComponentLink2URL: http://www.ti.com/lit/ds/symlink/tlv342.pdf; ComponentLink3Description: Package Specification; ComponentLink3URL: http://www.ti.com/litv/pdf/msoi002j
footprint TI-D8_N (SOIC, 8-Leads, Body 4.9x3.9mm, Pitch 1.27mm, IPC Medium Density)
footprint TI-D8_L (SOIC, 8-Leads, Body 4.9x3.9mm, Pitch 1.27mm, IPC High Density)
footprint TI-D8_M (SOIC, 8-Leads, Body 4.9x3.9mm, Pitch 1.27mm, IPC Low Density)
pins on every part: 4 GND (power), 8 V+ (power)
part A pins: 1 OUT1 (out), 2 IN1- (in), 3 IN1+ (in)
part B pins: 5 IN2+ (in), 6 IN2- (in), 7 OUT2 (out)

## TLV342IDRG4
designator U?
Low-Voltage, Rail-To-Rail Output CMOS Operational Amplifier, 1.5 to 5.5 V, -40 to 125 degC, 8-pin SOIC (D8), Green (RoHS & no Sb/Br); Manufacturer: Texas Instruments; PartNumber: TLV342IDRG4; CMRR(Min)(dB): 50; GBW(Typ)(MHz): 2.2; IIB(Max)(pA): 3000; Iq per channel(Max)(mA): 0.15; Number of Channels: 2; Offset Drift(Typ)(uV/C): 1.9; Rating: Catalog; Slew Rate(Typ)(V/us): 0.9; Sub Family: General Purpose Amplifier, Low Power Amp (<=500uA), Low Supply Voltage Amplifier (<=2.7V); Total Supply Voltage(Max)(+5V is 5, +/-5V is 10): 5.5; Total Supply Voltage(Min)(+5V is 5, +/-5V is 10): 1.5; Vio (25C)(Max)(mV): 4; Vn at 1kHz(Typ)(nV/rtHz): 33; DatasheetVersion: SLVS568C; PackageVersion: 4040047-3/M, 06/2011; PackageReference: D8; PackageDescription: 8-Pin Plastic Small Outline, Body 4.9 x 3.9 mm, Pitch 1.27 mm; Supplier 1: Digi-Key; Supplier Part Number 1: TLV342IDRG4-ND; Supplier 2: Mouser; Supplier Part Number 2: 595-TLV342IDRG4; Eco-Plan: Green (RoHS & no Sb/Br); Mounting Technology: Surface Mount; Code_JEDEC: MS-012; ComponentLink1Description: Manufacturer URL; ComponentLink1URL: http://www.ti.com/; ComponentLink2Description: Datasheet; ComponentLink2URL: http://www.ti.com/lit/ds/symlink/tlv342.pdf; ComponentLink3Description: Package Specification; ComponentLink3URL: http://www.ti.com/litv/pdf/msoi002j
footprint TI-D8_N (SOIC, 8-Leads, Body 4.9x3.9mm, Pitch 1.27mm, IPC Medium Density)
footprint TI-D8_L (SOIC, 8-Leads, Body 4.9x3.9mm, Pitch 1.27mm, IPC High Density)
footprint TI-D8_M (SOIC, 8-Leads, Body 4.9x3.9mm, Pitch 1.27mm, IPC Low Density)
pins on every part: 4 GND (power), 8 V+ (power)
part A pins: 1 OUT1 (out), 2 IN1- (in), 3 IN1+ (in)
part B pins: 5 IN2+ (in), 6 IN2- (in), 7 OUT2 (out)

## TLV342IRUGR
designator U?
Low-Voltage, Rail-To-Rail Output CMOS Operational Amplifier, 1.5 to 5.5 V, -40 to 125 degC, 10-pin X2QFN (RUG10), Green (RoHS & no Sb/Br); Manufacturer: Texas Instruments; PartNumber: TLV342IRUGR; CMRR(Min)(dB): 50; GBW(Typ)(MHz): 2.2; IIB(Max)(pA): 3000; Iq per channel(Max)(mA): 0.15; Number of Channels: 2; Offset Drift(Typ)(uV/C): 1.9; Rating: Catalog; Slew Rate(Typ)(V/us): 0.9; Sub Family: General Purpose Amplifier, Low Power Amp (<=500uA), Low Supply Voltage Amplifier (<=2.7V); Total Supply Voltage(Max)(+5V is 5, +/-5V is 10): 5.5; Total Supply Voltage(Min)(+5V is 5, +/-5V is 10): 1.5; Vio (25C)(Max)(mV): 4; Vn at 1kHz(Typ)(nV/rtHz): 33; DatasheetVersion: SLVS568C; PackageVersion: 4208528-3/B, 04/2008; PackageReference: RUG10; PackageDescription: 10-Pin Plastic Quad Flatpack, Body 1.5 x 2 mm; Supplier 1: Digi-Key; Supplier Part Number 1: 296-24766-2-ND; Supplier 2: Digi-Key; Supplier Part Number 2: 296-24766-1-ND; Supplier 3: Digi-Key; Supplier Part Number 3: 296-24766-6-ND; Supplier 4: Mouser; Supplier Part Number 4: 595-TLV342IRUGR; Eco-Plan: Green (RoHS & no Sb/Br); Mounting Technology: Surface Mount; Code_JEDEC: MO-288; ComponentLink1Description: Manufacturer URL; ComponentLink1URL: http://www.ti.com/; ComponentLink2Description: Datasheet; ComponentLink2URL: http://www.ti.com/lit/ds/symlink/tlv342.pdf; ComponentLink3Description: Package Specification; ComponentLink3URL: http://www.ti.com/litv/pdf/mpqf216a
footprint TI-RUG10_V (QFN, 10-Leads, Body 2x1.5mm)
part A pins: 1 IN1+ (in), 9 OUT1 (out), 10 IN1- (in)
part B pins: 4 IN2+ (in), 5 IN2- (in), 6 OUT2 (out)
part C pins: 2 GND (power), 3 NC, 7 V+, 8 NC

## TLV342IRUGRG4
designator U?
Low-Voltage, Rail-To-Rail Output CMOS Operational Amplifier, 1.5 to 5.5 V, -40 to 125 degC, 10-pin X2QFN (RUG10), Green (RoHS & no Sb/Br); Manufacturer: Texas Instruments; PartNumber: TLV342IRUGRG4; CMRR(Min)(dB): 50; GBW(Typ)(MHz): 2.2; IIB(Max)(pA): 3000; Iq per channel(Max)(mA): 0.15; Number of Channels: 2; Offset Drift(Typ)(uV/C): 1.9; Rating: Catalog; Slew Rate(Typ)(V/us): 0.9; Sub Family: General Purpose Amplifier, Low Power Amp (<=500uA), Low Supply Voltage Amplifier (<=2.7V); Total Supply Voltage(Max)(+5V is 5, +/-5V is 10): 5.5; Total Supply Voltage(Min)(+5V is 5, +/-5V is 10): 1.5; Vio (25C)(Max)(mV): 4; Vn at 1kHz(Typ)(nV/rtHz): 33; DatasheetVersion: SLVS568C; PackageVersion: 4208528-3/B, 04/2008; PackageReference: RUG10; PackageDescription: 10-Pin Plastic Quad Flatpack, Body 1.5 x 2 mm; Supplier 1: Digi-Key; Supplier Part Number 1: TLV342IRUGRG4-ND; Supplier 2: Mouser; Supplier Part Number 2: 595-TLV342IRUGRG4; Eco-Plan: Green (RoHS & no Sb/Br); Mounting Technology: Surface Mount; Code_JEDEC: MO-288; ComponentLink1Description: Manufacturer URL; ComponentLink1URL: http://www.ti.com/; ComponentLink2Description: Datasheet; ComponentLink2URL: http://www.ti.com/lit/ds/symlink/tlv342.pdf; ComponentLink3Description: Package Specification; ComponentLink3URL: http://www.ti.com/litv/pdf/mpqf216a
footprint TI-RUG10_V (QFN, 10-Leads, Body 2x1.5mm)
part A pins: 1 IN1+ (in), 9 OUT1 (out), 10 IN1- (in)
part B pins: 4 IN2+ (in), 5 IN2- (in), 6 OUT2 (out)
part C pins: 2 GND (power), 3 NC, 7 V+, 8 NC

## TLV342SIRUGR
designator U?
Low-Voltage, Rail-To-Rail Output CMOS Operational Amplifier with Shutdown, 1.5 to 5.5 V, -40 to 125 degC, 10-pin X2QFN (RUG10), Green (RoHS & no Sb/Br); Manufacturer: Texas Instruments; PartNumber: TLV342SIRUGR; CMRR(Min)(dB): 50; GBW(Typ)(MHz): 2.2; IIB(Max)(pA): 3000; Iq per channel(Max)(mA): 0.15; Number of Channels: 2; Offset Drift(Typ)(uV/C): 1.9; Rating: Catalog; Slew Rate(Typ)(V/us): 0.9; Sub Family: General Purpose Amplifier, Low Power Amp (<=500uA), Low Supply Voltage Amplifier (<=2.7V); Total Supply Voltage(Max)(+5V is 5, +/-5V is 10): 5.5; Total Supply Voltage(Min)(+5V is 5, +/-5V is 10): 1.5; Vio (25C)(Max)(mV): 4; Vn at 1kHz(Typ)(nV/rtHz): 33; DatasheetVersion: SLVS568C; PackageVersion: 4208528-3/B, 04/2008; PackageReference: RUG10; PackageDescription: 10-Pin Plastic Quad Flatpack, Body 1.5 x 2 mm; Supplier 1: Digi-Key; Supplier Part Number 1: 296-24767-2-ND; Supplier 2: Digi-Key; Supplier Part Number 2: 296-24767-1-ND; Supplier 3: Digi-Key; Supplier Part Number 3: 296-24767-6-ND; Supplier 4: Farnell; Supplier Part Number 4: 1536714; Supplier 5: Newark; Supplier Part Number 5: 71M0458; Supplier 6: Mouser; Supplier Part Number 6: 595-TLV342SIRUGR; Eco-Plan: Green (RoHS & no Sb/Br); Mounting Technology: Surface Mount; Code_JEDEC: MO-288; ComponentLink1Description: Manufacturer URL; ComponentLink1URL: http://www.ti.com/; ComponentLink2Description: Datasheet; ComponentLink2URL: http://www.ti.com/lit/ds/symlink/tlv342s.pdf; ComponentLink3Description: Package Specification; ComponentLink3URL: http://www.ti.com/litv/pdf/mpqf216a
footprint TI-RUG10_V (QFN, 10-Leads, Body 2x1.5mm)
pins on every part: 2 GND (power), 3 ~{SHDN} (in), 7 V+ (power), 8 NC
part A pins: 1 IN1+ (in), 9 OUT1 (out), 10 IN1- (in)
part B pins: 4 IN2+ (in), 5 IN2- (in), 6 OUT2 (out)

## TLV342SIRUGRG4
designator U?
Low-Voltage, Rail-To-Rail Output CMOS Operational Amplifier with Shutdown, 1.5 to 5.5 V, -40 to 125 degC, 10-pin X2QFN (RUG10), Green (RoHS & no Sb/Br); Manufacturer: Texas Instruments; PartNumber: TLV342SIRUGRG4; CMRR(Min)(dB): 50; GBW(Typ)(MHz): 2.2; IIB(Max)(pA): 3000; Iq per channel(Max)(mA): 0.15; Number of Channels: 2; Offset Drift(Typ)(uV/C): 1.9; Rating: Catalog; Slew Rate(Typ)(V/us): 0.9; Sub Family: General Purpose Amplifier, Low Power Amp (<=500uA), Low Supply Voltage Amplifier (<=2.7V); Total Supply Voltage(Max)(+5V is 5, +/-5V is 10): 5.5; Total Supply Voltage(Min)(+5V is 5, +/-5V is 10): 1.5; Vio (25C)(Max)(mV): 4; Vn at 1kHz(Typ)(nV/rtHz): 33; DatasheetVersion: SLVS568C; PackageVersion: 4208528-3/B, 04/2008; PackageReference: RUG10; PackageDescription: 10-Pin Plastic Quad Flatpack, Body 1.5 x 2 mm; Supplier 1: Digi-Key; Supplier Part Number 1: TLV342SIRUGRG4-ND; Supplier 2: Mouser; Supplier Part Number 2: 595-TLV342SIRUGRG4; Eco-Plan: Green (RoHS & no Sb/Br); Mounting Technology: Surface Mount; Code_JEDEC: MO-288; ComponentLink1Description: Manufacturer URL; ComponentLink1URL: http://www.ti.com/; ComponentLink2Description: Datasheet; ComponentLink2URL: http://www.ti.com/lit/ds/symlink/tlv342s.pdf; ComponentLink3Description: Package Specification; ComponentLink3URL: http://www.ti.com/litv/pdf/mpqf216a
footprint TI-RUG10_V (QFN, 10-Leads, Body 2x1.5mm)
pins on every part: 2 GND (power), 3 ~{SHDN} (in), 7 V+ (power), 8 NC
part A pins: 1 IN1+ (in), 9 OUT1 (out), 10 IN1- (in)
part B pins: 4 IN2+ (in), 5 IN2- (in), 6 OUT2 (out)

## TLV2262AQPWRQ1
designator U?
Automotive Catalog Advanced LinCMOS Rail-To-Rail Operational Amplifier, 2.7 to 8 V, -40 to 125 degC, 8-pin SOP (PW8), Green (RoHS & no Sb/Br); Manufacturer: Texas Instruments; PartNumber: TLV2262AQPWRQ1; CMRR(Min)(dB): 65; GBW(Typ)(MHz): 0.67; IIB(Max)(pA): 60; Iq per channel(Max)(mA): 0.25; Number of Channels: 2; Slew Rate(Typ)(V/us): 0.55; Sub Family: General Purpose Amplifier, Low Power Amp (<=500uA), Low Supply Voltage Amplifier (<=2.7V); Total Supply Voltage(Max)(+5V is 5, +/-5V is 10): 8; Total Supply Voltage(Min)(+5V is 5, +/-5V is 10): 2.7; Vio (25C)(Max)(mV): 0.95; Vn at 1kHz(Typ)(nV/rtHz): 12; DatasheetVersion: SGLS193; PackageVersion: 4040064-2/G, 02/2011; PackageReference: PW8; PackageDescription: 8-Pin Plastic Small Outline, Body 4.4 x 3 mm, Pitch 0.65 mm; Supplier 1: Digi-Key; Supplier Part Number 1: 296-24224-2-ND; Supplier 2: Digi-Key; Supplier Part Number 2: 296-24224-1-ND; Supplier 3: Digi-Key; Supplier Part Number 3: 296-24224-6-ND; Supplier 4: Mouser; Supplier Part Number 4: 595-TLV2262AQPWRQ1; Eco-Plan: Green (RoHS & no Sb/Br); Offset Drift(Typ)(uV/C): 2; Rating: Automotive; Mounting Technology: Surface Mount; Code_JEDEC: MO-153; ComponentLink1Description: Manufacturer URL; ComponentLink1URL: http://www.ti.com/; ComponentLink2Description: Datasheet; ComponentLink2URL: http://www.ti.com/lit/ds/symlink/tlv2262a-q1.pdf; ComponentLink3Description: Package Specification; ComponentLink3URL: http://www.ti.com/litv/pdf/mtss001d
footprint TI-PW8_N (SOP, 8-Leads, Body 4.4x3mm, Pitch 0.65mm, IPC Medium Density)
footprint TI-PW8_L (SOP, 8-Leads, Body 4.4x3mm, Pitch 0.65mm, IPC High Density)
footprint TI-PW8_M (SOP, 8-Leads, Body 4.4x3mm, Pitch 0.65mm, IPC Low Density)
pins on every part: 4 VDD-/GND (power), 8 VDD (power)
part A pins: 1 OUT1 (out), 2 IN1- (in), 3 IN1+ (in)
part B pins: 5 IN2+ (in), 6 IN2- (in), 7 OUT2 (out)

## TLV2264AQPWRQ1
designator U?
Automotive Catalog Advanced LinCMOS Rail-To-Rail Operational Amplifier, 2.7 to 8 V, -40 to 125 degC, 14-pin SOP (PW14), Green (RoHS & no Sb/Br); Manufacturer: Texas Instruments; PartNumber: TLV2264AQPWRQ1; CMRR(Min)(dB): 65; GBW(Typ)(MHz): 0.67; IIB(Max)(pA): 60; Iq per channel(Max)(mA): 0.25; Number of Channels: 4; Offset Drift(Typ)(uV/C): 2; Slew Rate(Typ)(V/us): 0.55; Sub Family: General Purpose Amplifier, Low Power Amp (<=500uA), Low Supply Voltage Amplifier (<=2.7V); Total Supply Voltage(Max)(+5V is 5, +/-5V is 10): 8; Total Supply Voltage(Min)(+5V is 5, +/-5V is 10): 2.7; Vio (25C)(Max)(mV): 0.95; Vn at 1kHz(Typ)(nV/rtHz): 12; DatasheetVersion: SGLS193; PackageVersion: 4040064-3/G, 02/2011; PackageReference: PW14; PackageDescription: 14-Pin Plastic Small Outline, Body 5 x 4.4 mm, Pitch 0.65 mm; Supplier 1: Digi-Key; Supplier Part Number 1: 296-24153-2-ND; Supplier 2: Digi-Key; Supplier Part Number 2: 296-24153-1-ND; Supplier 3: Digi-Key; Supplier Part Number 3: 296-24153-6-ND; Supplier 4: Mouser; Supplier Part Number 4: 595-TLV2264AQPWRQ1; Eco-Plan: Green (RoHS & no Sb/Br); Rating: Automotive; Mounting Technology: Surface Mount; Code_JEDEC: MO-153; ComponentLink1Description: Manufacturer URL; ComponentLink1URL: http://www.ti.com/; ComponentLink2Description: Datasheet; ComponentLink2URL: http://www.ti.com/lit/ds/symlink/tlv2264a-q1.pdf; ComponentLink3Description: Package Specification; ComponentLink3URL: http://www.ti.com/litv/pdf/mpds360
footprint TI-PW14_N (SOP, 14-Leads, Body 5x4.4mm, Pitch 0.65mm, IPC Medium Density)
footprint TI-PW14_L (SOP, 14-Leads, Body 5x4.4mm, Pitch 0.65mm, IPC High Density)
footprint TI-PW14_M (SOP, 14-Leads, Body 5x4.4mm, Pitch 0.65mm, IPC Low Density)
pins on every part: 4 VDD+ (power), 11 VDD-/GND (power)
part A pins: 1 OUT1 (out), 2 IN1- (in), 3 IN1+ (in)
part B pins: 5 IN2+ (in), 6 IN2- (in), 7 OUT2 (out)
part C pins: 8 OUT3 (out), 9 IN3- (in), 10 IN3+ (in)
part D pins: 12 IN4+ (in), 13 IN4- (in), 14 OUT4 (out)

## TLV2361CDBVR
designator U?
Single High-Performance, Low-Voltage Operational Amplifier, 2 to 5 V, 0 to 70 degC, 5-pin SOT23 (DBV5), Green (RoHS & no Sb/Br); Manufacturer: Texas Instruments; PartNumber: TLV2361CDBVR; CMRR(Min)(dB): 85; GBW(Typ)(MHz): 6; IIB(Max)(pA): 150000; Iq per channel(Max)(mA): 2.25; Number of Channels: 1; Slew Rate(Typ)(V/us): 3; Sub Family: General Purpose Amplifier, Low Noise Amp (<=10nV/rtHz), Low Supply Voltage Amplifier (<=2.7V); Total Supply Voltage(Max)(+5V is 5, +/-5V is 10): 5; Total Supply Voltage(Min)(+5V is 5, +/-5V is 10): 2; Vn at 1kHz(Typ)(nV/rtHz): 9; DatasheetVersion: SLOS195H; PackageVersion: 4073253-4/K, 03/2006; PackageReference: DBV5; PackageDescription: 5-Pin Plastic Small Outline, Body 1.6 x 2.9 mm, Pitch 0.95 mm; Supplier 1: Digi-Key; Supplier Part Number 1: 296-13798-2-ND; Supplier 2: Digi-Key; Supplier Part Number 2: 296-13798-1-ND; Supplier 3: Digi-Key; Supplier Part Number 3: 296-13798-6-ND; Supplier 4: Mouser; Supplier Part Number 4: 595-TLV2361CDBVR; Eco-Plan: Green (RoHS & no Sb/Br); Vio (25C)(Max)(mV): 6; Mounting Technology: Surface Mount; Code_JEDEC: MO-178; ComponentLink1Description: Manufacturer URL; ComponentLink1URL: http://www.ti.com/; ComponentLink2Description: Datasheet; ComponentLink2URL: http://www.ti.com/lit/ds/symlink/tlv2361.pdf; ComponentLink3Description: Package Specification; ComponentLink3URL: http://www.ti.com/litv/pdf/mpds018i
footprint TI-DBV5_N (SOT23, 5-Leads, Body 2.9x1.6mm, Pitch 0.95mm, IPC Medium Density)
footprint TI-DBV5_L (SOT23, 5-Leads, Body 2.9x1.6mm, Pitch 0.95mm, IPC High Density)
footprint TI-DBV5_M (SOT23, 5-Leads, Body 2.9x1.6mm, Pitch 0.95mm, IPC Low Density)
pins: 1 IN+ (in), 2 VCC- (power), 3 IN- (in), 4 OUT (out), 5 VCC+ (power)

## TLV2361CDBVRE4
designator U?
Single High-Performance, Low-Voltage Operational Amplifier, 2 to 5 V, 0 to 70 degC, 5-pin SOT23 (DBV5), Green (RoHS & no Sb/Br); Manufacturer: Texas Instruments; PartNumber: TLV2361CDBVRE4; CMRR(Min)(dB): 85; GBW(Typ)(MHz): 6; IIB(Max)(pA): 150000; Iq per channel(Max)(mA): 2.25; Number of Channels: 1; Slew Rate(Typ)(V/us): 3; Sub Family: General Purpose Amplifier, Low Noise Amp (<=10nV/rtHz), Low Supply Voltage Amplifier (<=2.7V); Total Supply Voltage(Max)(+5V is 5, +/-5V is 10): 5; Total Supply Voltage(Min)(+5V is 5, +/-5V is 10): 2; Vn at 1kHz(Typ)(nV/rtHz): 9; DatasheetVersion: SLOS195H; PackageVersion: 4073253-4/K, 03/2006; PackageReference: DBV5; PackageDescription: 5-Pin Plastic Small Outline, Body 1.6 x 2.9 mm, Pitch 0.95 mm; Supplier 1: Digi-Key; Supplier Part Number 1: TLV2361CDBVRE4-ND; Supplier 2: Mouser; Supplier Part Number 2: 595-TLV2361CDBVRE4; Eco-Plan: Green (RoHS & no Sb/Br); Vio (25C)(Max)(mV): 6; Mounting Technology: Surface Mount; Code_JEDEC: MO-178; ComponentLink1Description: Manufacturer URL; ComponentLink1URL: http://www.ti.com/; ComponentLink2Description: Datasheet; ComponentLink2URL: http://www.ti.com/lit/ds/symlink/tlv2361.pdf; ComponentLink3Description: Package Specification; ComponentLink3URL: http://www.ti.com/litv/pdf/mpds018i
footprint TI-DBV5_N (SOT23, 5-Leads, Body 2.9x1.6mm, Pitch 0.95mm, IPC Medium Density)
footprint TI-DBV5_L (SOT23, 5-Leads, Body 2.9x1.6mm, Pitch 0.95mm, IPC High Density)
footprint TI-DBV5_M (SOT23, 5-Leads, Body 2.9x1.6mm, Pitch 0.95mm, IPC Low Density)
pins: 1 IN+ (in), 2 VCC- (power), 3 IN- (in), 4 OUT (out), 5 VCC+ (power)